# EAGLE library part ISP (library Mechanical)
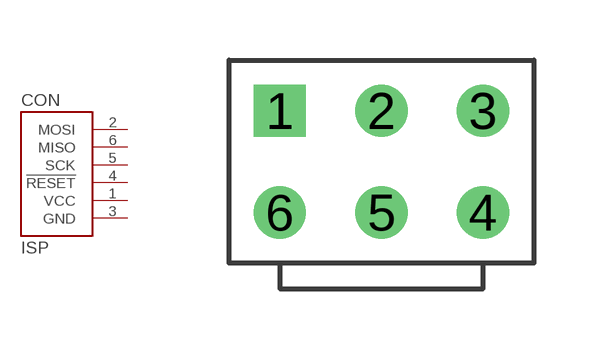
[diagram p0: symbol with the pads of PINHEADER(2X3); footprint PINHEADER(2X3)]

Designator prefix CON

## ISP(2X3)  [PINHEADER(2X3)]
1  VCC
2  MOSI
3  GND
4  !RESET
5  SCK
6  MISO

## Footprint PINHEADER(2X3) (pad centres in mm)
drill 0.8 square: 1 -2.54,1.27
drill 0.8: 2 0,1.27; 3 2.54,1.27; 4 2.54,-1.27; 5 0,-1.27; 6 -2.54,-1.27